# Altium footprint library WE-TPC_2828.PcbLib: 1 footprints
Each footprint in its own frame and in the unit in brackets; x right, y up, seen from the top. Pads: shape width x height; smd on the part's side, far side on the other; paste and mask are expansions set on the pad; w line width, h text height; cw(c..) or ccw(c..) is an arc to the next point about the centre after c.
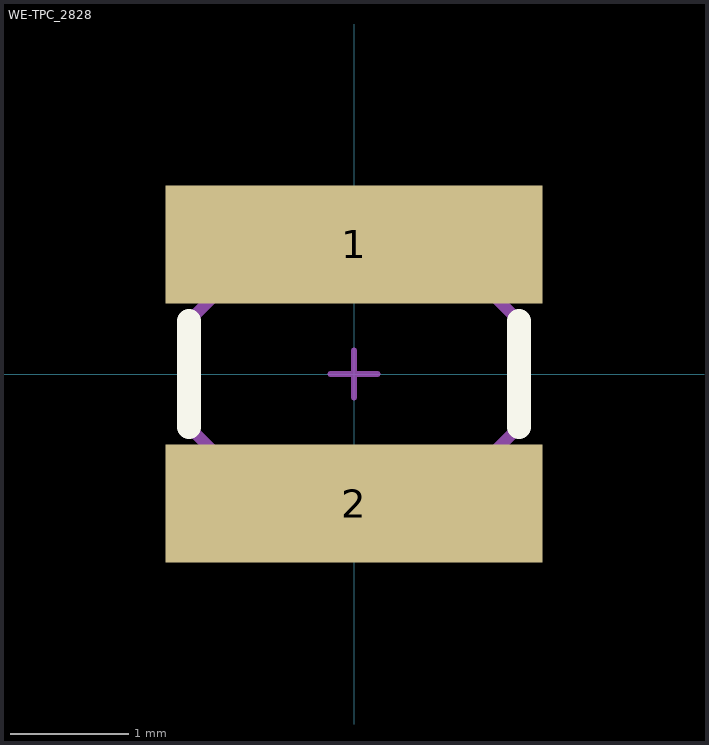
[diagram p0: the footprint, top view; thin cyan lines are the x and y axes]

## WE-TPC_2828 [mm] "Power Inductor, SMD, 2-Leads, body 2.8x2.8mm"
height 2.8
pads (2):
  rect 3.2x1 smd: 1(0,1.1) 2(0,-1.1)
Top Overlay:
  lines w0.2: -1.4,-0.45 -1.4,0.45 ; 1.4,-0.45 1.4,0.45
Mechanical 13:
  lines w0.1: -1.4,-0.45 -0.45,-1.4 0.45,-1.4 1.4,-0.45 1.4,0.45 0.45,1.4 -0.45,1.4 -1.4,0.45 -1.4,-0.45
Mechanical 15:
  lines w0.05: -0.2,0 0.2,0 ; 0,-0.2 0,0.2
3D body "744025xxx.stp": height 2.82, standoff 0.02, extent -1.4,-1.4 1.4,1.4